# Altium footprint library axsem_v4-24.PCBLIB: 14 footprints
Each footprint in its own frame and in the unit in brackets; x right, y up, seen from the top. Pads: shape width x height; smd on the part's side, far side on the other; paste and mask are expansions set on the pad; w line width, h text height; cw(c..) or ccw(c..) is an arc to the next point about the centre after c.
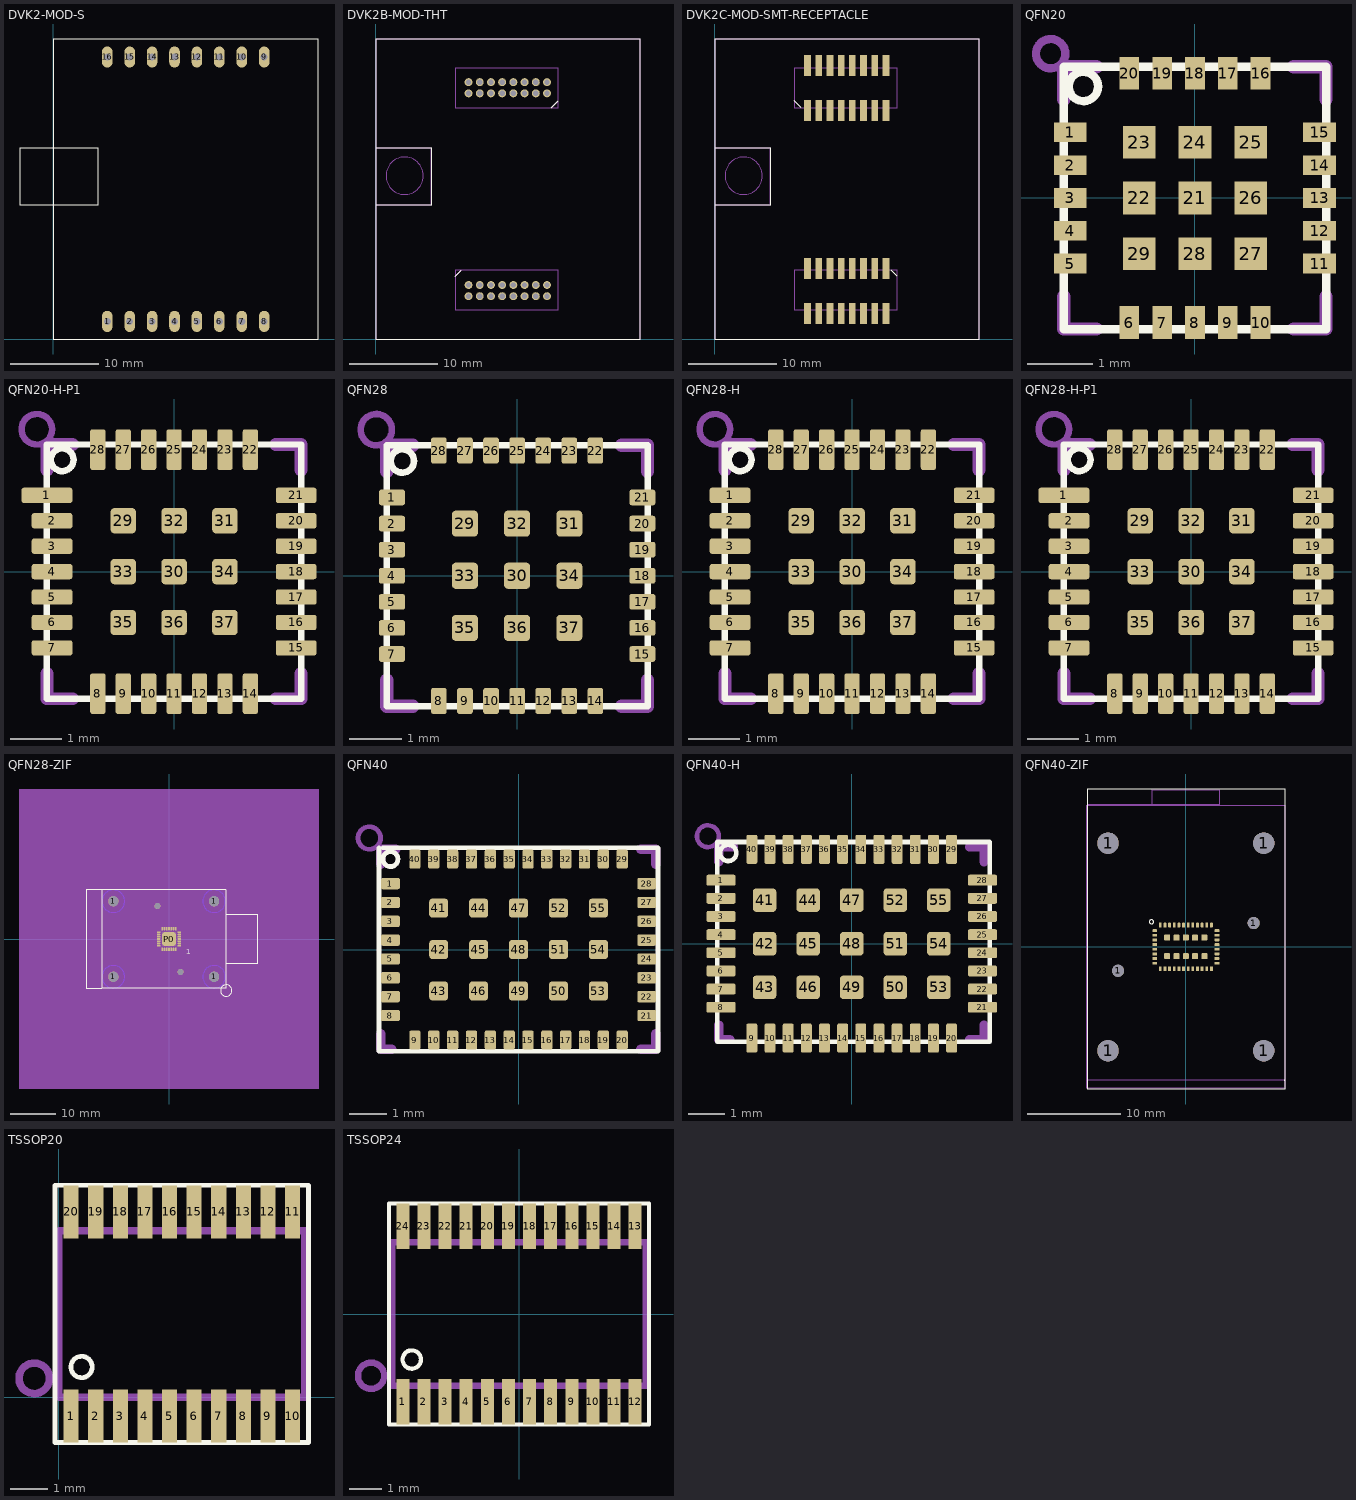
[diagram p0: the footprints below, top view; thin cyan lines are the x and y axes]

## DVK2-MOD-S [mil]
pads (16):
  oval 47.25x94.5 hole 31.5: 1(240.16,78.74) 2(340.16,78.74) 3(440.16,78.74) 4(540.16,78.74) 5(640.16,78.74) 6(740.16,78.74) 7(840.16,78.74) 8(940.16,78.74) 9(940.16,1258.27) 10(840.16,1258.27) 11(740.16,1258.27) 12(640.16,1258.27) 13(540.16,1258.27) 14(440.16,1258.27) 15(340.16,1258.27) 16(240.16,1258.27)
Top Overlay:
  lines w5: 0,600 0,1338.58 1181.1,1338.58 1181.1,0 0,0 0,600 ; 0,600 200,600 200,850 -150,850 -150,600 0,600

## DVK2B-MOD-THT [mm]
pads (32):
  round 0.9 hole 0.6: 1A(10.53,6.12) 1B(19.42,27.84) 2A(10.53,4.85) 2B(19.42,29.11) 3A(11.8,6.12) 3B(18.15,27.84) 4A(11.8,4.85) 4B(18.15,29.11) 5A(13.07,6.12) 5B(16.88,27.84) 6A(13.07,4.85) 6B(16.88,29.11) 7A(14.34,6.12) 7B(15.61,27.84) 8A(14.34,4.85) 8B(15.61,29.11) 9A(15.61,6.12) 9B(14.34,27.84) 10A(15.61,4.85) 10B(14.34,29.11) 11A(16.88,6.12) 11B(13.07,27.84) 12A(16.88,4.85) 12B(13.07,29.11) 13A(18.15,6.12) 13B(11.8,27.84) 14A(18.15,4.85) 14B(11.8,29.11) 15A(19.42,6.12) 15B(10.53,27.84) 16A(19.42,4.85) 16B(10.53,29.11)
Top Overlay:
  lines w0.127: 9,7.1 9.7,7.8 ; 19.9,26.2 20.7,27 ; 0,15.24 0,0 30,0 30,34 0,34 0,21.59 ; 0,15.24 6.35,15.24 6.35,21.59 0,21.59 ; 0,15.24 0,21.59
Mechanical 16:
  circle w0.127: c3.3,18.5 r2.121
  lines w0.127: 0.1,15.2 6.3,15.2 6.3,21.6 0.1,21.6 ; 9,7.1 9,7.8 9.7,7.8 ; 9,7.1 9,3.3 20.7,3.3 20.7,7.8 9.7,7.8 ; 9,7.1 9.7,7.8 ; 19.9,26.2 9,26.2 9,30.7 20.7,30.7 20.7,27 ; 19.9,26.2 20.7,26.2 20.7,27 ; 19.9,26.2 20.7,27 ; 0,0 30,0 30,34 0,34 0,0

## DVK2C-MOD-SMT-RECEPTACLE [mm]
pads (32):
  rect 0.76x2.4 smd: 1A(19.42,8) 1B(10.53,25.9) 2A(19.42,2.9) 2B(10.53,31) 3A(18.15,8) 3B(11.8,25.9) 4A(18.15,2.9) 4B(11.8,31) 5A(16.88,8) 5B(13.07,25.9) 6A(16.88,2.9) 6B(13.07,31) 7A(15.61,8) 7B(14.34,25.9) 8A(15.61,2.9) 8B(14.34,31) 9A(14.34,8) 9B(15.61,25.9) 10A(14.34,2.9) 10B(15.61,31) 11A(13.07,8) 11B(16.88,25.9) 12A(13.07,2.9) 12B(16.88,31) 13A(11.8,8) 13B(18.15,25.9) 14A(11.8,2.9) 14B(18.15,31) 15A(10.53,8) 15B(19.42,25.9) 16A(10.53,2.9) 16B(19.42,31)
Top Overlay:
  lines w0.127: 9,27 9.8,26.2 ; 20,7.8 20.7,7.1 ; 0,15.24 0,0 30,0 30,34 0,34 0,21.59 ; 0,15.24 6.35,15.24 6.35,21.59 0,21.59 ; 0,15.24 0,21.59
Mechanical 16:
  circle w0.127: c3.3,18.5 r2.121
  lines w0.127: 0.1,15.2 6.3,15.2 6.3,21.6 0.1,21.6 ; 0,0 30,0 30,34 0,34 0,0 ; 9,3.3 20.7,3.3 20.7,7.8 9,7.8 9,3.3 ; 9,26.2 20.7,26.2 20.7,30.7 9,30.7 9,26.2

## QFN20 [mm]
pads (29):
  rect 0.5x0.3 smd: 1(-1.9,1) 2(-1.9,0.5) 3(-1.9,0) 4(-1.9,-0.5) 5(-1.9,-1) 11(1.9,-1) 12(1.9,-0.5) 13(1.9,0) 14(1.9,0.5) 15(1.9,1)
  rect 0.3x0.5 smd: 6(-1,-1.9) 7(-0.5,-1.9) 8(0,-1.9) 9(0.5,-1.9) 10(1,-1.9) 16(1,1.9) 17(0.5,1.9) 18(0,1.9) 19(-0.5,1.9) 20(-1,1.9)
  rect 0.5x0.5 smd: 21(0,0) 22(-0.85,0) 23(-0.85,0.85) 24(0,0.85) 25(0.85,0.85) 26(0.85,0) 27(0.85,-0.85) 28(0,-0.85) 29(-0.85,-0.85)
Top Overlay:
  circle w0.127: c-1.7,1.7 r0.224
  lines w0.127: -2,-2 -2,2 2,2 2,-2 -2,-2
Mechanical 16:
  circle w0.127: c-2.2,2.2 r0.224
  lines w0.2: -2,-1.5 -2,-2 -1.5,-2 ; -2,1.5 -2,2 -1.5,2 ; 1.5,-2 2,-2 2,-1.5 ; 1.5,2 2,2 2,1.5

## QFN20-H-P1 [mil]
pads (37):
  rrect30% 39.37x11.81 smd: 1(-98.43,59.06)
  rrect30% 31.5x11.81 smd: 2(-94.49,39.37) 3(-94.49,19.69) 4(-94.49,0) 5(-94.49,-19.69) 6(-94.49,-39.37) 7(-94.49,-59.06) 15(94.49,-59.06) 16(94.49,-39.37) 17(94.49,-19.69) 18(94.49,0) 19(94.49,19.69) 20(94.49,39.37) 21(94.49,59.06)
  rrect30% 11.81x31.5 smd: 8(-59.06,-94.49) 9(-39.37,-94.49) 10(-19.69,-94.49) 11(0,-94.49) 12(19.69,-94.49) 13(39.37,-94.49) 14(59.06,-94.49) 22(59.06,94.49) 23(39.37,94.49) 24(19.69,94.49) 25(0,94.49) 26(-19.69,94.49) 27(-39.37,94.49) 28(-59.06,94.49)
  rrect30% 19.69x19.69 smd: 29(-39.37,39.37) 30(0,0) 31(39.37,39.37) 32(0,39.37) 33(-39.37,0) 34(39.37,0) 35(-39.37,-39.37) 36(0,-39.37) 37(39.37,-39.37)
Top Overlay:
  circle w5: c-86.61,86.61 r8.8
  lines w5: -98.43,-98.43 -98.43,98.43 98.43,98.43 98.43,-98.43 -98.43,-98.43
Mechanical 16:
  circle w5: c-106.3,110.24 r11.81
  lines w10: -98.43,-78.74 -98.43,-98.43 -78.74,-98.43 ; -98.43,78.74 -98.43,98.43 -78.74,98.43 ; 78.74,-98.43 98.43,-98.43 98.43,-78.74 ; 78.74,98.43 98.43,98.43 98.43,78.74

## QFN28 [mm]
pads (37):
  rrect30% 0.5x0.3 smd: 1(-2.4,1.5) 2(-2.4,1) 3(-2.4,0.5) 4(-2.4,0) 5(-2.4,-0.5) 6(-2.4,-1) 7(-2.4,-1.5) 15(2.4,-1.5) 16(2.4,-1) 17(2.4,-0.5) 18(2.4,0) 19(2.4,0.5) 20(2.4,1) 21(2.4,1.5)
  rrect30% 0.3x0.5 smd: 8(-1.5,-2.4) 9(-1,-2.4) 10(-0.5,-2.4) 11(0,-2.4) 12(0.5,-2.4) 13(1,-2.4) 14(1.5,-2.4) 22(1.5,2.4) 23(1,2.4) 24(0.5,2.4) 25(0,2.4) 26(-0.5,2.4) 27(-1,2.4) 28(-1.5,2.4)
  rrect30% 0.5x0.5 smd: 29(-1,1) 30(0,0) 31(1,1) 32(0,1) 33(-1,0) 34(1,0) 35(-1,-1) 36(0,-1) 37(1,-1)
Top Overlay:
  circle w0.127: c-2.2,2.2 r0.224
  lines w0.127: -2.5,-2.5 -2.5,2.5 2.5,2.5 2.5,-2.5 -2.5,-2.5
Mechanical 16:
  circle w0.127: c-2.7,2.8 r0.3
  lines w0.254: -2.5,-2 -2.5,-2.5 -2,-2.5 ; -2.5,2 -2.5,2.5 -2,2.5 ; 2,-2.5 2.5,-2.5 2.5,-2 ; 2,2.5 2.5,2.5 2.5,2

## QFN28-H [mil]
pads (37):
  rrect30% 31.5x11.81 smd: 1(-94.49,59.06) 2(-94.49,39.37) 3(-94.49,19.69) 4(-94.49,0) 5(-94.49,-19.69) 6(-94.49,-39.37) 7(-94.49,-59.06) 15(94.49,-59.06) 16(94.49,-39.37) 17(94.49,-19.69) 18(94.49,0) 19(94.49,19.69) 20(94.49,39.37) 21(94.49,59.06)
  rrect30% 11.81x31.5 smd: 8(-59.06,-94.49) 9(-39.37,-94.49) 10(-19.69,-94.49) 11(0,-94.49) 12(19.69,-94.49) 13(39.37,-94.49) 14(59.06,-94.49) 22(59.06,94.49) 23(39.37,94.49) 24(19.69,94.49) 25(0,94.49) 26(-19.69,94.49) 27(-39.37,94.49) 28(-59.06,94.49)
  rrect30% 19.69x19.69 smd: 29(-39.37,39.37) 30(0,0) 31(39.37,39.37) 32(0,39.37) 33(-39.37,0) 34(39.37,0) 35(-39.37,-39.37) 36(0,-39.37) 37(39.37,-39.37)
Top Overlay:
  circle w5: c-86.61,86.61 r8.8
  lines w5: -98.43,-98.43 98.43,-98.43 98.43,98.43 -98.43,98.43 -98.43,-98.43
Mechanical 16:
  circle w5: c-106.3,110.24 r11.81
  lines w10: -98.43,-78.74 -98.43,-98.43 -78.74,-98.43 ; -98.43,78.74 -98.43,98.43 -78.74,98.43 ; 78.74,-98.43 98.43,-98.43 98.43,-78.74 ; 78.74,98.43 98.43,98.43 98.43,78.74

## QFN28-H-P1 [mil]
pads (37):
  rrect30% 39.37x11.81 smd: 1(-98.43,59.06)
  rrect30% 31.5x11.81 smd: 2(-94.49,39.37) 3(-94.49,19.69) 4(-94.49,0) 5(-94.49,-19.69) 6(-94.49,-39.37) 7(-94.49,-59.06) 15(94.49,-59.06) 16(94.49,-39.37) 17(94.49,-19.69) 18(94.49,0) 19(94.49,19.69) 20(94.49,39.37) 21(94.49,59.06)
  rrect30% 11.81x31.5 smd: 8(-59.06,-94.49) 9(-39.37,-94.49) 10(-19.69,-94.49) 11(0,-94.49) 12(19.69,-94.49) 13(39.37,-94.49) 14(59.06,-94.49) 22(59.06,94.49) 23(39.37,94.49) 24(19.69,94.49) 25(0,94.49) 26(-19.69,94.49) 27(-39.37,94.49) 28(-59.06,94.49)
  rrect30% 19.69x19.69 smd: 29(-39.37,39.37) 30(0,0) 31(39.37,39.37) 32(0,39.37) 33(-39.37,0) 34(39.37,0) 35(-39.37,-39.37) 36(0,-39.37) 37(39.37,-39.37)
Top Overlay:
  circle w5: c-86.61,86.61 r8.8
  lines w5: -98.43,-98.43 98.43,-98.43 98.43,98.43 -98.43,98.43 -98.43,-98.43
Mechanical 16:
  circle w5: c-106.3,110.24 r11.81
  lines w10: -98.43,-78.74 -98.43,-98.43 -78.74,-98.43 ; -98.43,78.74 -98.43,98.43 -78.74,98.43 ; 78.74,-98.43 98.43,-98.43 98.43,-78.74 ; 78.74,98.43 98.43,98.43 98.43,78.74

## QFN28-ZIF [mil]
pads (35):
  round 89 hole 89: 1(-486,-330) 1(-486,330) 1(394,-330) 1(394,330)
  round 51 hole 51: 1(-101,287.5) 1(101,-287.5)
  rrect25% 118.11x118.11 smd: P0(0,0)
  rrect100% 31.5x13.78 smd: P1(90.43,-59.06) P2(90.43,-39.37) P3(90.43,-19.69) P4(90.43,0) P5(90.43,19.69) P6(90.43,39.37) P7(90.43,59.06) P15(-90.43,59.06) P16(-90.43,39.37) P17(-90.43,19.69) P18(-90.43,0) P19(-90.43,-19.69) P20(-90.43,-39.37) P21(-90.43,-59.06)
  rrect100% 13.78x31.5 smd: P8(59.06,90.37) P9(39.37,90.37) P10(19.69,90.37) P11(0,90.37) P12(-19.69,90.37) P13(-39.37,90.37) P14(-59.06,90.37) P22(-59.06,-90.43) P23(-39.37,-90.43) P24(-19.69,-90.43) P25(0,-90.43) P26(19.69,-90.43) P27(39.37,-90.43) P28(59.06,-90.43)
Bottom Layer keep-out:
  circle w5: c-486,330 r98.43
  circle w5: c-486,-330 r98.43
  circle w5: c394,330 r98.43
  circle w5: c394,-330 r98.43
Top Overlay:
  circle w5: c500,-450 r50
  lines w5: -586,-430 -586,430 ; -586,-430 494,-430 494,-215 ; -586,-430 -721,-430 -721,430 -586,430 ; -586,430 494,430 494,215 ; 494,-215 494,215 ; 494,-215 769,-215 769,215 494,215
  text "1" at 150,-150 h77.5
Top Solder:
  rectangle: -586,-430 494,430
Mechanical 27:
  rectangle: -1310,-1310 1310,1310
Mechanical 28:
  circle w5: c-486,330 r157.48
  circle w5: c-486,-330 r157.48
  circle w5: c394,330 r157.48
  circle w5: c394,-330 r157.48

## QFN40 [mm]
pads (55):
  rrect30% 0.5x0.3 smd: 1(-3.4,1.75) 2(-3.4,1.25) 3(-3.4,0.75) 4(-3.4,0.25) 5(-3.4,-0.25) 6(-3.4,-0.75) 7(-3.4,-1.25) 8(-3.4,-1.75) 21(3.4,-1.75) 22(3.4,-1.25) 23(3.4,-0.75) 24(3.4,-0.25) 25(3.4,0.25) 26(3.4,0.75) 27(3.4,1.25) 28(3.4,1.75)
  rrect30% 0.3x0.5 smd: 9(-2.75,-2.4) 10(-2.25,-2.4) 11(-1.75,-2.4) 12(-1.25,-2.4) 13(-0.75,-2.4) 14(-0.25,-2.4) 15(0.25,-2.4) 16(0.75,-2.4) 17(1.25,-2.4) 18(1.75,-2.4) 19(2.25,-2.4) 20(2.75,-2.4) 29(2.75,2.4) 30(2.25,2.4) 31(1.75,2.4) 32(1.25,2.4) 33(0.75,2.4) 34(0.25,2.4) 35(-0.25,2.4) 36(-0.75,2.4) 37(-1.25,2.4) 38(-1.75,2.4) 39(-2.25,2.4) 40(-2.75,2.4)
  rrect30% 0.5x0.5 smd: 41(-2.12,1.1) 42(-2.12,0) 43(-2.12,-1.1) 44(-1.06,1.1) 45(-1.06,0) 46(-1.06,-1.1) 47(0,1.1) 48(0,0) 49(0,-1.1) 50(1.06,-1.1) 51(1.06,0) 52(1.06,1.1) 53(2.12,-1.1) 54(2.12,0) 55(2.12,1.1)
Top Overlay:
  circle w0.127: c-3.4,2.4 r0.2
  lines w0.127: -3.7,2.7 -3.7,-2.7 3.7,-2.7 3.7,2.7 -3.6,2.7
Mechanical 16:
  circle w0.127: c-3.96,2.96 r0.3
  lines w0.254: -3.66,-2.24 -3.66,-2.64 -3.36,-2.64 ; -3.66,2.26 -3.66,2.66 -3.26,2.66 ; 3.24,-2.64 3.64,-2.64 3.64,-2.24 ; 3.24,2.66 3.64,2.66 3.64,2.26

## QFN40-H [mil]
pads (55):
  rrect30% 31.5x11.81 smd: 1(-141.73,68.9) 2(-141.73,49.21) 3(-141.73,29.53) 4(-141.73,9.84) 5(-141.73,-9.84) 6(-141.73,-29.53) 7(-141.73,-49.21) 8(-141.73,-68.9) 21(141.73,-68.9) 22(141.73,-49.21) 23(141.73,-29.53) 24(141.73,-9.84) 25(141.73,9.84) 26(141.73,29.53) 27(141.73,49.21) 28(141.73,68.9)
  rrect30% 11.81x31.5 smd: 9(-108.27,-102.36) 10(-88.58,-102.36) 11(-68.9,-102.36) 12(-49.21,-102.36) 13(-29.53,-102.36) 14(-9.84,-102.36) 15(9.84,-102.36) 16(29.53,-102.36) 17(49.21,-102.36) 18(68.9,-102.36) 19(88.58,-102.36) 20(108.27,-102.36) 29(108.27,102.36) 30(88.58,102.36) 31(68.9,102.36) 32(49.21,102.36) 33(29.53,102.36) 34(9.84,102.36) 35(-9.84,102.36) 36(-29.53,102.36) 37(-49.21,102.36) 38(-68.9,102.36) 39(-88.58,102.36) 40(-108.27,102.36)
  rrect30% 25.59x25.59 smd: 41(-94.49,47.24) 42(-94.49,0) 43(-94.49,-47.24) 44(-47.24,47.24) 45(-47.24,0) 46(-47.24,-47.24) 47(0,47.24) 48(0,0) 49(0,-47.24) 50(47.24,-47.24) 51(47.24,0) 52(47.24,47.24) 53(94.49,-47.24) 54(94.49,0) 55(94.49,47.24)
Top Overlay:
  circle w5: c-133.86,98.43 r8.8
  lines w5: -145.67,-106.3 149.61,-106.3 149.61,110.24 -145.67,110.24 -145.67,-106.3
Mechanical 16:
  circle w5: c-155.91,116.54 r11.81
  lines w10: -144.09,-88.19 -144.09,-103.94 -132.28,-103.94 ; -144.09,88.98 -144.09,104.72 -128.35,104.72 ; 127.56,-103.94 143.31,-103.94 143.31,-88.19 ; 127.56,104.72 143.31,104.72 143.31,88.98

## QFN40-ZIF [mm]
pads (56):
  round 2.3 hole 2.3: 1(-8.38,-11.175) 1(-8.38,11.175) 1(8.38,-11.175) 1(8.38,11.175)
  round 1.3 hole 1.3: 1(-7.305,-2.57) 1(7.305,2.57)
  rrect30% 0.5x0.3 smd: 1(-3.35,1.75) 2(-3.35,1.25) 3(-3.35,0.75) 4(-3.35,0.25) 5(-3.35,-0.25) 6(-3.35,-0.75) 7(-3.35,-1.25) 8(-3.35,-1.75) 21(3.35,-1.75) 22(3.35,-1.25) 23(3.35,-0.75) 24(3.35,-0.25) 25(3.35,0.25) 26(3.35,0.75) 27(3.35,1.25) 28(3.35,1.75)
  rrect30% 0.3x0.5 smd: 9(-2.75,-2.35) 10(-2.25,-2.35) 11(-1.75,-2.35) 12(-1.25,-2.35) 13(-0.75,-2.35) 14(-0.25,-2.35) 15(0.25,-2.35) 16(0.75,-2.35) 17(1.25,-2.35) 18(1.75,-2.35) 19(2.25,-2.35) 20(2.75,-2.35) 29(2.75,2.35) 30(2.25,2.35) 31(1.75,2.35) 32(1.25,2.35) 33(0.75,2.35) 34(0.25,2.35) 35(-0.25,2.35) 36(-0.75,2.35) 37(-1.25,2.35) 38(-1.75,2.35) 39(-2.25,2.35) 40(-2.75,2.35)
  rrect30% 0.65x0.65 smd: 41(-2.01,1) 43(-2.01,-1) 44(-1.01,1) 46(-1.01,-1) 47(-0.01,1) 49(-0.01,-1) 50(0.99,-1) 52(0.99,1) 53(1.99,-1) 55(1.99,1)
Top Overlay:
  circle w0.127: c-3.7,2.7 r0.224
  lines w0.127: 10.6,-14.4 10.6,-14.3 ; -10.6,-15.3 -10.6,17 10.7,17 10.7,-15.3 -10.6,-15.3
Mechanical 16:
  lines w0.127: -3.6,15.3 -3.6,16.9 3.6,16.9 3.6,15.3 -10.6,15.3 -10.6,-14.3 10.6,-14.3 ; -10.67,-15.24 10.67,-15.24 10.67,15.24 -10.67,15.24 -10.67,-15.24

## TSSOP20 [mm]
pads (20):
  rect 0.4x1.4 smd: 1(0.325,-0.5) 2(0.975,-0.5) 3(1.625,-0.5) 4(2.275,-0.5) 5(2.925,-0.5) 6(3.575,-0.5) 7(4.225,-0.5) 8(4.875,-0.5) 9(5.525,-0.5) 10(6.175,-0.5) 11(6.175,4.9) 12(5.525,4.9) 13(4.875,4.9) 14(4.225,4.9) 15(3.575,4.9) 16(2.925,4.9) 17(2.275,4.9) 18(1.625,4.9) 19(0.975,4.9) 20(0.325,4.9)
Top Overlay:
  circle w0.127: c0.6,0.8 r0.283
  lines w0.127: -0.1,-1.2 -0.1,5.6 6.6,5.6 6.6,-1.2 -0.1,-1.2
Mechanical 16:
  circle w0.2: c-0.65,0.5 r0.403
  lines w0.2: 0,0 6.5,0 6.5,4.4 0,4.4 0,0

## TSSOP24 [mm]
pads (24):
  rect 0.4x1.4 smd: 1(-3.575,-2.7) 2(-2.925,-2.7) 3(-2.275,-2.7) 4(-1.625,-2.7) 5(-0.975,-2.7) 6(-0.325,-2.7) 7(0.325,-2.7) 8(0.975,-2.7) 9(1.625,-2.7) 10(2.275,-2.7) 11(2.925,-2.7) 12(3.575,-2.7) 13(3.575,2.7) 14(2.925,2.7) 15(2.275,2.7) 16(1.625,2.7) 17(0.975,2.7) 18(0.325,2.7) 19(-0.325,2.7) 20(-0.975,2.7) 21(-1.625,2.7) 22(-2.275,2.7) 23(-2.925,2.7) 24(-3.575,2.7)
Top Overlay:
  circle w0.127: c-3.3,-1.4 r0.283
  lines w0.127: -4,-3.4 -4,3.4 4,3.4 4,-3.4 -4,-3.4
Mechanical 16:
  circle w0.2: c-4.55,-1.9 r0.403
  lines w0.2: -3.9,-2.2 3.9,-2.2 3.9,2.2 -3.9,2.2 -3.9,-2.2